# EAGLE library part ARDUINO_UNO_SPL (library shield_flotador)
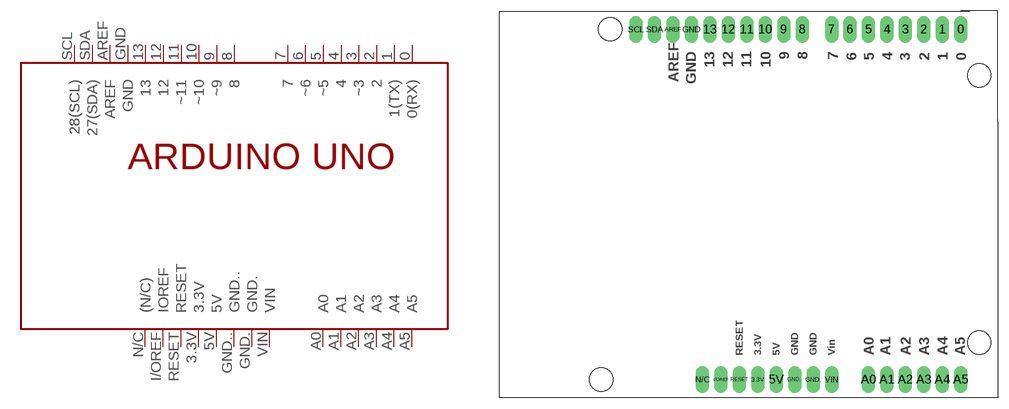
[diagram p3: symbol with the pads of ARDUINO_UNO_REC; footprint ARDUINO_UNO_REC]

Designator prefix -

## ARDUINO_UNO_SPL  [ARDUINO_UNO_REC]
0  0(RX)
1  1(TX)
2  2
3  ~3
3.3V  3.3V
4  4
5  ~5
5V  5V
6  ~6
7  7
8  8
9  ~9
10  ~10
11  ~11
12  12
13  13
A0  A0
A1  A1
A2  A2
A3  A3
A4  A4
A5  A5
AREF  AREF
GND  GND
GND.  GND.
GND..  GND..
I/OREF  IOREF
N/C  (N/C)
RESET  RESET
SCL  28(SCL)
SDA  27(SDA)
VIN  VIN

## Footprint ARDUINO_UNO_REC (pad centres in mm)
drill 1.016 pad 1.88 long: 0 50.8,12.7; 1 48.26,12.7; 2 45.72,12.7; 3 43.18,12.7; 3.3V 22.86,-35.56; 4 40.64,12.7; 5 38.1,12.7; 5V 25.4,-35.56; 6 35.56,12.7; 7 33.02,12.7; 8 28.956,12.7; 9 26.416,12.7; 10 23.876,12.7; 11 21.336,12.7; 12 18.796,12.7; 13 16.256,12.7; A0 38.1,-35.56; A1 40.64,-35.56; A2 43.18,-35.56; A3 45.72,-35.56; A4 48.26,-35.56; A5 50.8,-35.56; AREF 11.176,12.7; GND 13.716,12.7; GND. 30.48,-35.56; GND.. 27.94,-35.56; I/OREF 17.78,-35.56; N/C 15.24,-35.56; RESET 20.32,-35.56; SCL 6.096,12.7; SDA 8.636,12.7; VIN 33.02,-35.56
hole 3.2 at 53.34,-30.48
hole 3.2 at 53.34,6.35
hole 3.2 at 2.54,12.7
hole 3.2 at 1.27,-35.56